# Altium footprint library SFControl.PcbLib: 16 footprints
Each footprint in its own frame and in the unit in brackets; x right, y up, seen from the top. Pads: shape width x height; smd on the part's side, far side on the other; paste and mask are expansions set on the pad; w line width, h text height; cw(c..) or ccw(c..) is an arc to the next point about the centre after c.
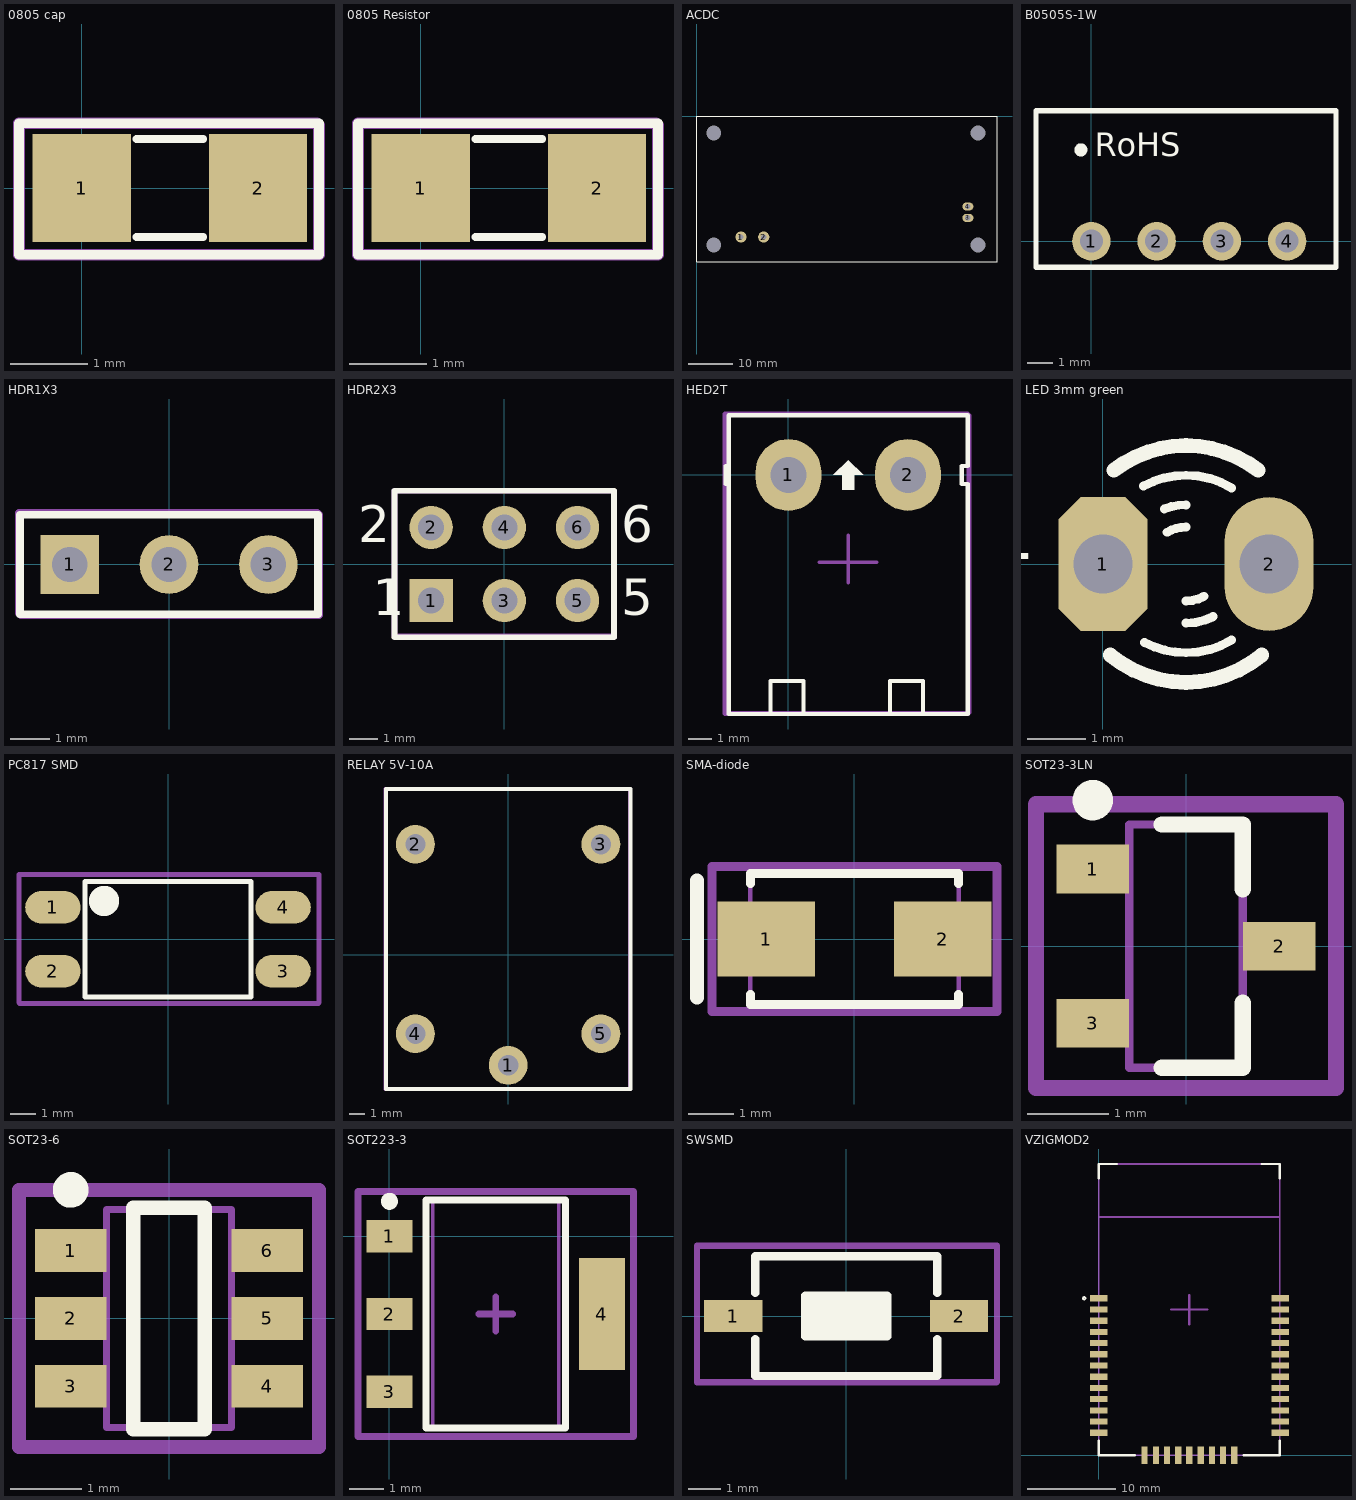
[diagram p0: the footprints below, top view; thin cyan lines are the x and y axes]

## 0805 cap [mil]
pads (2):
  rect 50x55 smd: 1(0,0) 2(90,0)
Top Overlay:
  lines w4: 28,-25 62,-25 ; 28,25 62,25
  lines w5: -32,-34 -32,33 121,33 121,-34 -32,-34
Mechanical 16:
  lines w5.91: -32,-34 121,-34 121,32 120,33 -32,33 -32,-34
Mechanical 29:
  text ".Designator" at -21,-19 h39.37
3D body: height 24.02, standoff -0.39, extent 5.24,-27 84.77,23

## 0805 Resistor [mil]
pads (2):
  rect 50x55 smd: 1(0,0) 2(90,0)
Top Overlay:
  lines w4: 28,-25 62,-25 ; 28,25 62,25
  lines w5: -32,-34 -32,33 121,33 121,-34 -32,-34
Mechanical 16:
  lines w5.91: -32,-34 121,-34 121,32 120,33 -32,33 -32,-34
Mechanical 29:
  text ".Designator" at -21,-19 h39.37
3D body: height 28.46, standoff -1.46, extent -1.27,-26.57 89.28,26.58

## ACDC [mm]
pads (8):
  round 0 hole 3.3 unplated: 0(3.75,-28.75) 0(3.75,-3.75) 0(62.75,-28.75) 0(62.75,-3.75)
  round 2.5 hole 1.2: 1(9.838,-26.961) 2(14.918,-26.961)
  oval 2.5x1.778 hole 1.2: 3(60.518,-22.687) 4(60.518,-20.147)
Top Overlay:
  lines w0.254: 0.015,-32.481 0.015,0.019 67.015,0.019 67.015,-32.481 0.015,-32.481
Mechanical 29:
  text ".Designator" at 19.015,-19.031 h3
3D body: height 30, standoff 0, extent -0.013,-32.36 67.043,0.025

## B0505S-1W [mm]
pads (4):
  round 1.5 hole 0.9: 1(0,0) 2(2.54,0) 3(5.08,0) 4(7.62,0)
Top Overlay:
  circle w0.254: c-0.411,3.556 r0.127
  lines w0.2: -2.159,-1.016 9.525,-1.016 9.525,5.08 -2.159,5.08 -2.159,-1.016
  text "RoHS" at 0.127,3.302 h0.91
3D body: height 9.75, standoff -4.35, extent -2.117,-1.016 9.483,4.984

## HDR1X3 [mm]
pads (3):
  rect 1.5x1.5 hole 0.9: 1(-2.54,0)
  round 1.5 hole 0.9: 2(0,0) 3(2.54,0)
Top Overlay:
  lines w0.2: -3.81,-1.27 3.81,-1.27 3.81,1.27 -3.81,1.27 -3.81,-1.27
Mechanical 16:
  lines w0.2: -3.835,-1.245 -3.785,-1.295 3.835,-1.295 3.835,1.27 3.785,1.321 -3.835,1.321 -3.835,-1.245
Mechanical 29:
  text ".Designator" at -3.404,-0.279 h1

## HDR2X3 [mm]
pads (6):
  rect 1.5x1.5 hole 0.9: 1(-2.54,-1.27)
  round 1.5 hole 0.9: 2(-2.54,1.27) 3(0,-1.27) 4(0,1.27) 5(2.54,-1.27) 6(2.54,1.27)
Top Overlay:
  lines w0.2: -1.058,-2.54 3.81,-2.54 ; 3.81,-2.54 -3.81,-2.54 -3.81,2.54 3.81,2.54 3.81,-2.54
  text "1" at -4.572,-1.778 h1.27
  text "2" at -5.08,0.762 h1.27
  text "5" at 4.064,-1.778 h1.27
  text "6" at 4.064,0.762 h1.27
Mechanical 16:
  lines w0.2: -3.81,-2.515 -3.81,2.54 -3.785,2.54 3.785,2.54 3.81,2.515 3.81,-2.515 -3.81,-2.515
Mechanical 29:
  text ".Designator" at -3.429,-0.508 h1

## HED2T [mil]
pads (2):
  oval 110x120 hole 60: 1(0,0) 2(200,0)
Top Overlay:
  region: 100,25 75,0 90,0 90,-25 110,-25 110,0 125,0
  lines w7: -105,-15 -105,15 ; -100,100 -100,-400 300,-400 300,-15 290,-15 290,15 300,15 300,100 -98,100 ; -30,-400 -30,-345 25,-345 25,-400 ; 170,-400 170,-345 225,-345 225,-400
Mechanical 16:
  lines w5.91: 52,-146 148,-146 ; 100,-180 100,-101
  lines w7.87: -106,-399 -106,102 300,102 302,100 302,-398 301,-399 -106,-399
Mechanical 29:
  text ".Designator" at -101,-377 h39.37
3D body: height 333.51, standoff -157.48, extent -96.7,-399.22 297,73.22

## LED 3mm green [mil]
pads (2):
  oct 60x90.55 hole 40: 1(0,0)
  oval 60x90.55 hole 40: 2(112.2,0)
Top Overlay:
  lines w6: 27.37,52.67 cw(c56.1,0) 56.1,60 cw(c56.1,0) 86.97,51.45 ; 28.08,-53.05 ccw(c56.1,0) 56.1,-60 ccw(c56.1,0) 86.97,-51.45 ; 41.4,37.2 cw(c56.1,0) 56.1,40 ; 43.24,21.44 cw(c56.1,0) 56.1,25 ; 56.1,-40 ccw(c56.1,0) 74.37,-35.58 ; 56.1,-25 ccw(c56.1,0) 68.4,-21.76
  lines w10: 4.89,-61.46 ccw(c56.1,0) 56.1,-80 ccw(c56.1,0) 107.32,-61.46 ; 7.33,63.41 cw(c56.1,0) 56.1,80 cw(c56.11,0) 104.88,63.41
  text "+" at -45.28,20.67 h36
3D body: height 217.04, standoff -97.93, extent -8.86,-67.47 121.06,62.01

## PC817 SMD [mm]
pads (4):
  oval 2.2x1.3 smd: 1(-4.572,1.27) 2(-4.572,-1.27) 3(4.572,-1.27) 4(4.572,1.27)
Top Overlay:
  circle w1: c-2.54,1.524 r0.1
  lines w0.2: -3.3,-2.29 -3.3,2.29 3.3,2.29 3.3,-2.29 -3.3,-2.29
Mechanical 16:
  lines w0.2: -5.918,-2.515 -5.918,2.565 5.994,2.565 5.994,-2.515 5.969,-2.54 -5.893,-2.54 -5.918,-2.515
Mechanical 29:
  text ".Designator" at -3.759,-0.102 h0.8
3D body: height 3.86, standoff 0.01, extent -4.822,-2.29 5.178,2.29

## RELAY 5V-10A [mm]
pads (5):
  round 2.5 hole 1.3: 1(0,-7.112) 2(-5.969,7.112) 3(5.969,7.112) 4(-5.969,-5.08) 5(5.969,-5.08)
Top Overlay:
  lines w0.254: -7.874,-8.636 -7.874,10.668 7.874,10.668 7.874,-8.636 -7.874,-8.636
Mechanical 16:
  lines w0.254: -7.899,-8.636 7.849,-8.636 7.849,10.668 -7.899,10.668 -7.899,-8.636
Mechanical 29:
  text ".Designator" at -7.264,-0.076 h2
3D body: height 15.3, standoff -5, extent -7.75,-8.509 7.75,10.591

## SMA-diode [mm]
pads (2):
  rect 2.15x1.65 smd: 1(-1.95,0) 2(1.95,0)
Top Overlay:
  lines w0.2: -2.3,-1.225 -2.3,-1.45 2.3,-1.45 2.3,-1.225 ; -2.3,1.225 -2.3,1.45 2.3,1.45 2.3,1.225
  lines w0.3: -3.48,-1.295 -3.48,1.295
Mechanical 13:
  lines w0.1: -2.3,-1.46 2.3,-1.46 2.3,1.46 -2.3,1.46 -2.3,-1.46
Mechanical 16:
  lines w0.2: -3.15,-1.6 3.15,-1.6 3.15,1.6 -3.15,1.6 -3.15,-1.6
Mechanical 29:
  text ".Designator" at -2.515,-0.381 h0.8
3D body: height 2.4, standoff 0, extent -2.702,-1.3 2.498,1.3

## SOT23-3LN [mm]
pads (3):
  rect 0.9x0.6 smd: 1(-1.15,0.95) 2(1.15,0) 3(-1.15,-0.95)
Top Overlay:
  circle w0.25: c-1.15,1.8 r0.125
  lines w0.2: -0.3,-1.5 0.7,-1.5 0.7,-0.7 ; -0.3,1.5 0.7,1.5 0.7,0.7
Mechanical 13:
  lines w0.1: -0.7,-1.5 -0.7,1.5 0.7,1.5 0.7,-1.5 -0.7,-1.5
Mechanical 16:
  lines w0.2: -1.85,-1.75 -1.85,1.75 1.85,1.75 1.85,-1.75 -1.85,-1.75
Mechanical 29:
  text ".Designator" at -1.448,-0.33 h0.8
3D body: height 1.1, standoff 0.1, extent -0.7,-1.5 0.7,1.5

## SOT23-6 [mm]
pads (6):
  rect 1x0.6 smd: 1(-1.375,0.95) 2(-1.375,0) 3(-1.375,-0.95) 4(1.375,-0.95) 5(1.375,0) 6(1.375,0.95)
Top Overlay:
  circle w0.25: c-1.375,1.8 r0.125
  lines w0.2: -0.5,-1.55 0.5,-1.55 0.5,1.55 -0.5,1.55 -0.5,-1.55
Mechanical 13:
  lines w0.1: -0.875,-1.525 -0.875,1.525 0.875,1.525 0.875,-1.525 -0.875,-1.525
Mechanical 16:
  lines w0.2: -2.1,-1.8 -2.1,1.8 2.1,1.8 2.1,-1.8 -2.1,-1.8
Mechanical 29:
  text ".Designator" at -1.727,-0.457 h0.8
3D body: height 1.45, standoff 0.1, extent -0.875,-1.525 0.875,1.525

## SOT223-3 [mm]
pads (4):
  rect 1.35x0.95 smd: 1(0,0) 2(0,-2.29) 3(0,-4.58)
  rect 1.35x3.3 smd: 4(6.25,-2.29)
Top Overlay:
  circle w0.25: c0,1.025 r0.125
  lines w0.2: 1.075,-5.645 5.175,-5.645 5.175,1.065 1.075,1.065 1.075,-5.645
Mechanical 13:
  lines w0.1: 1.27,-5.645 4.98,-5.645 4.98,1.065 1.27,1.065 1.27,-5.645
Mechanical 16:
  lines w0.2: 2.625,-2.29 3.625,-2.29 ; 3.125,-2.79 3.125,-1.79 ; -0.925,-5.895 7.175,-5.895 7.175,1.315 -0.925,1.315 -0.925,-5.895
Mechanical 29:
  text ".Designator" at -0.254,-3.683 h0.8
3D body: height 1.65, standoff 0, extent -0.418,-5.54 6.669,0.96

## SWSMD [mm]
pads (2):
  rect 1.8x1 smd: 1(-3.5,0) 2(3.5,0)
Top Overlay:
  rectangle: -1.27,-0.635 1.27,0.635
  lines w0.254: -2.819,-0.711 -2.819,-1.854 2.819,-1.854 2.819,-0.711 ; -2.819,0.711 -2.819,1.854 2.819,1.854 2.819,0.711 ; -1.27,-0.635 -1.27,0.635 1.27,0.635 1.27,-0.635 -1.27,-0.635
Mechanical 16:
  lines w0.2: -4.623,-2.057 4.648,-2.057 4.674,-2.032 4.674,2.184 -4.623,2.184 -4.623,-2.057
Mechanical 29:
  text ".Designator" at -3.607,-0.33 h0.8
3D body: height 2.5, standoff 0, extent -3.05,-1.85 3.05,1.85

## VZIGMOD2 [mm]
pads (35):
  rect 2x0.7 smd: 1(0,17.78) 2(0,16.51) 3(0,15.24) 4(0,13.97) 5(0,12.7) 6(0,11.43) 7(0,10.16) 8(0,8.89) 9(0,7.62) 10(0,6.35) 11(0,5.08) 12(0,3.81) 13(0,2.54) 23(20.56,2.54) 24(20.56,3.81) 25(20.56,5.08) 26(20.56,6.35) 27(20.56,7.62) 28(20.56,8.89) 29(20.56,10.16) 30(20.56,11.43) 31(20.56,12.7) 32(20.56,13.97) 33(20.56,15.24) 34(20.56,16.51) 35(20.56,17.78)
  rect 0.7x2 smd: 14(5.2,0) 15(6.47,0) 16(7.74,0) 17(9.01,0) 18(10.25,0) 19(11.55,0) 20(12.82,0) 21(14.09,0) 22(15.36,0)
Top Overlay:
  circle w0.203: c-1.651,17.78 r0.137
  lines w0.254: 0,1.65 0,0 4.1,0 ; 0,31.35 0,33 2.05,33 ; 16.4,0 20.5,0 20.5,1.65 ; 18.45,33 20.5,33 20.5,31.35
Mechanical 1:
  lines w0.203: 0,27 20.5,27 20.5,33 0,33 0,27
Mechanical 15:
  lines w0.203: 0,0 0,33 20.5,33 20.5,0 0,0
  lines w0.254: 8.2,16.5 12.3,16.5 ; 10.25,14.85 10.25,18.15
Mechanical 16:
  lines w0.203: 0,0 20.5,0 20.5,33 0,33 0,0
Mechanical 29:
  text "'.Designator'" at 9.896,16.254 h0.8
3D body: height 2.05, standoff 0.01, extent 0,0 20.5,33